# EAGLE library part TEXAS_INSTRUMENTS-LEVEL_SHIFTER-SN74AVC8T245RHLR (library Module_ICs)
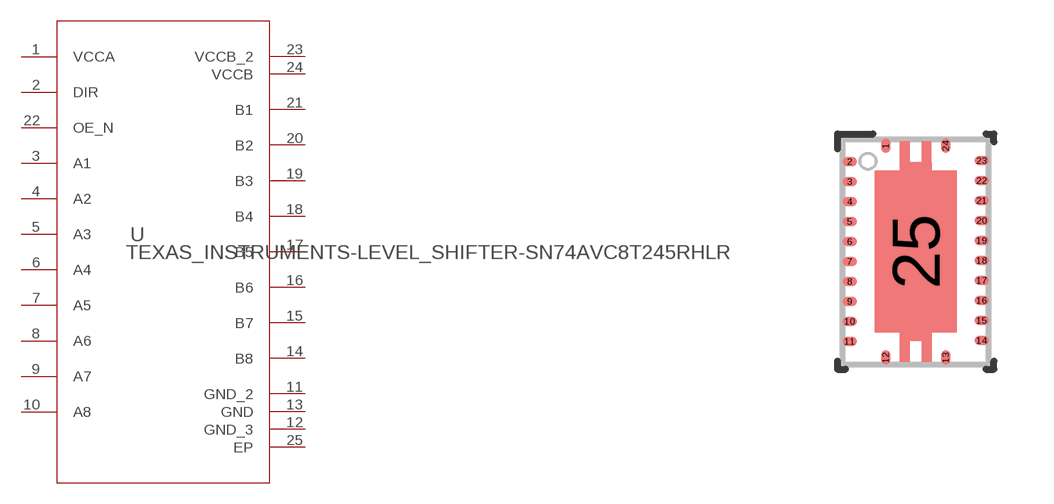
[diagram p1: symbol with the pads of TEXAS_INSTRUMENTS-LEVEL_SHIFTER-SN74AVC8T245RHLR; footprint TEXAS_INSTRUMENTS-LEVEL_SHIFTER-SN74AVC8T245RHLR]

Designator prefix U

## TEXAS_INSTRUMENTS-LEVEL_SHIFTER-SN74AVC8T245RHLR (COMPTYPE: IC; MANUFACTURER: Texas Instruments; MOUNTTYPE: SMT; PACKAGEREFERENCE: RHL0024A; PARTNUMBER: SN74AVC8T245RHL; PIN_COUNT: 25; REFDES: RefDes; ROHS: Y; TYPE: TYPE; VALUE: Value)  [TEXAS_INSTRUMENTS-LEVEL_SHIFTER-SN74AVC8T245RHLR]
1  VCCA  pwr
2  DIR  in
3  A1
4  A2
5  A3
6  A4
7  A5
8  A6
9  A7
10  A8
11  GND_2  pwr
12  GND_3  pwr
13  GND  pwr
14  B8
15  B7
16  B6
17  B5
18  B4
19  B3
20  B2
21  B1
22  OE_N  in
23  VCCB_2  pwr
24  VCCB  pwr
25  EP  pas

## Footprint TEXAS_INSTRUMENTS-LEVEL_SHIFTER-SN74AVC8T245RHLR (pad centres in mm)
smd 0.24 x 0.36: 1 -0.75,2.65; 12 -0.75,-2.65; 13 0.75,-2.65; 24 0.75,2.65
smd 0.36 x 0.24: 2 -1.65,2.25; 3 -1.65,1.75; 4 -1.65,1.25; 5 -1.65,0.75; 6 -1.65,0.25; 7 -1.65,-0.25; 8 -1.65,-0.75; 9 -1.65,-1.25; 10 -1.65,-1.75; 11 -1.65,-2.25; 14 1.65,-2.225; 15 1.65,-1.725; 16 1.65,-1.225; 17 1.65,-0.725; 18 1.65,-0.225; 19 1.65,0.275; 20 1.65,0.775; 21 1.65,1.275; 22 1.65,1.775; 23 1.65,2.275
smd 2.05 x 4.05: 25 0,0